# Altium footprint library WE-CMB.PcbLib: 17 footprints (part 2 of 2)
Each footprint in its own frame and in the unit in brackets; x right, y up, seen from the top. Pads: shape width x height; smd on the part's side, far side on the other; paste and mask are expansions set on the pad; w line width, h text height; cw(c..) or ccw(c..) is an arc to the next point about the centre after c.
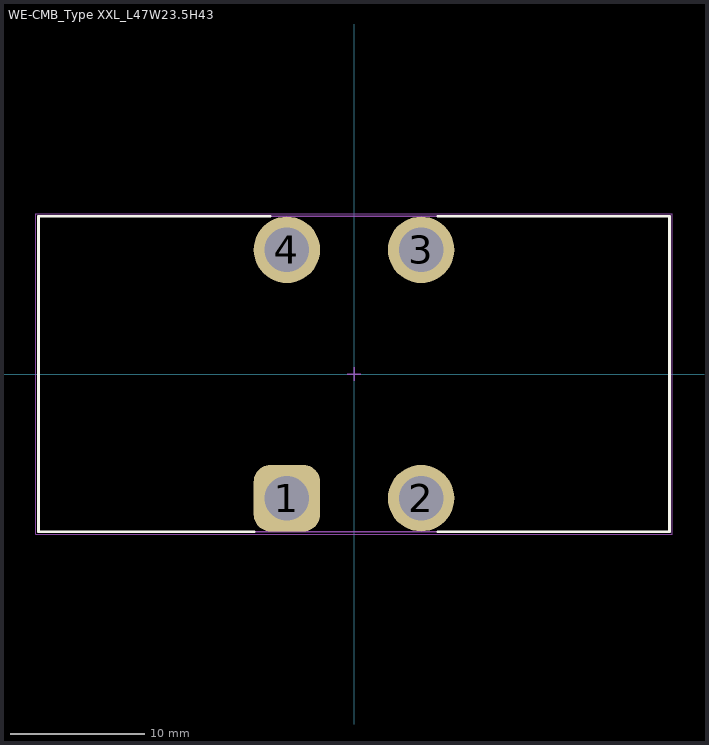
[diagram p1: the footprint, top view; thin cyan lines are the x and y axes]

## WE-CMB_Type XXL_L47W23.5H43 [mm] "Common Mode Power Line Choke, 4-Leads, body 47x23.5mm"
height 43
pads (4):
  rrect50% 4.95x4.95 hole 3.3: 1(-5,-9.25)
  round 4.95 hole 3.3: 2(5,-9.25) 3(5,9.25) 4(-5,9.25)
Top Overlay:
  lines w0.2: -7.45,-11.75 -23.5,-11.75 -23.5,11.75 -6.25,11.75 ; 6.25,-11.75 23.5,-11.75 23.5,11.75 6.25,11.75
Top Assembly:
  lines w0.1: -23.5,-11.75 23.5,-11.75 23.5,11.75 -23.5,11.75 -23.5,-11.75
Top Designator:
  text ".Designator" at -3.647,-0.357 h1
Top 3D Body:
  lines w0.1: -23.5,-11.75 -23.5,11.75 23.5,11.75 23.5,-11.75 -23.5,-11.75
Top Courtyard:
  lines w0.05: -23.7,-11.95 23.7,-11.95 23.7,11.95 -23.7,11.95 -23.7,-11.95
Top Component Center:
  lines w0.1: -0.5,0 0.5,0 ; 0,-0.5 0,0.5
3D body "7448263505.stp": height 39.6, standoff -2.8, extent -20.365,-11.5 20.365,11.5